# Altium footprint library MFP30KR.PcbLib: 1 footprints
Each footprint in its own frame and in the unit in brackets; x right, y up, seen from the top. Pads: shape width x height; smd on the part's side, far side on the other; paste and mask are expansions set on the pad; w line width, h text height; cw(c..) or ccw(c..) is an arc to the next point about the centre after c.
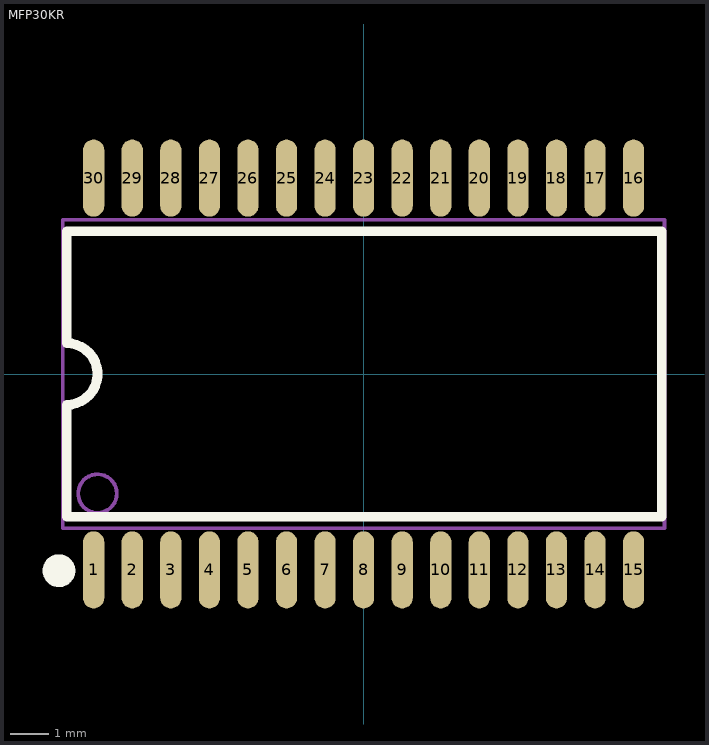
[diagram p0: the footprint, top view; thin cyan lines are the x and y axes]

## MFP30KR [mm] "THB6128"
pads (30):
  oval 0.55x2 smd: 1(-7,-5.08) 2(-6,-5.08) 3(-5,-5.08) 4(-4,-5.08) 5(-3,-5.08) 6(-2,-5.08) 7(-1,-5.08) 8(0,-5.08) 9(1,-5.08) 10(2,-5.08) 11(3,-5.08) 12(4,-5.08) 13(5,-5.08) 14(6,-5.08) 15(7,-5.08) 16(7,5.08) 17(6,5.08) 18(5,5.08) 19(4,5.08) 20(3,5.08) 21(2,5.08) 22(1,5.08) 23(0,5.08) 24(-1,5.08) 25(-2,5.08) 26(-3,5.08) 27(-4,5.08) 28(-5,5.08) 29(-6,5.08) 30(-7,5.08)
Top Overlay:
  circle w0.45: c-7.9,-5.1 r0.2
  lines w0.254: -7.7,-3.7 7.732,-3.7 7.732,3.7 -7.7,3.7 -7.7,0.8 cw(c-7.7,0) -7.7,-0.8 -7.7,-3.7
Mechanical 13:
  circle w0.1: c-6.9,-3.1 r0.5
  lines w0.1: -7.8,-4 -7.8,4 7.8,4 7.8,-4 -7.8,-4